# EAGLE library part SS-22S (library nikkai_ss)
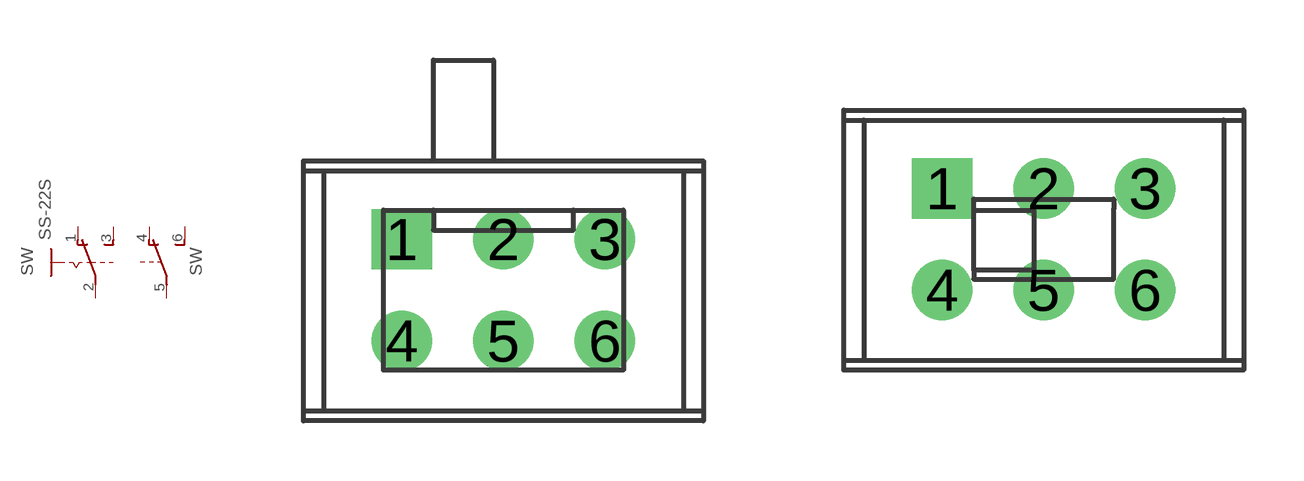
[diagram p0: symbol with the pads of SS-22SDH2; footprints SS-22SDH2, SS-22SDP2]

Designator prefix SW; gates G$1=SIS- G$2=U2

## SS-22SDH2  [SS-22SDH2]
1  G$1:O  pas
2  G$1:P  pas
3  G$1:S  pas
4  G$2:O  pas
5  G$2:P  pas
6  G$2:S  pas

## SS-22SDP2  [SS-22SDP2]
Pads as for SS-22SDH2

## Footprint SS-22SDH2 (pad centres in mm)
drill 1 square: 1 -2.54,1.27
drill 1 round: 2 0,1.27; 3 2.54,1.27; 4 -2.54,-1.27; 5 0,-1.27; 6 2.54,-1.27

## Footprint SS-22SDP2 (pad centres in mm)
drill 1 square: 1 -2.54,1.27
drill 1 round: 2 0,1.27; 3 2.54,1.27; 4 -2.54,-1.27; 5 0,-1.27; 6 2.54,-1.27